# Altium footprint library WS-DITV.PcbLib: 44 footprints (part 1 of 3)
Each footprint in its own frame and in the unit in brackets; x right, y up, seen from the top. Pads: shape width x height; smd on the part's side, far side on the other; paste and mask are expansions set on the pad; w line width, h text height; cw(c..) or ccw(c..) is an arc to the next point about the centre after c.
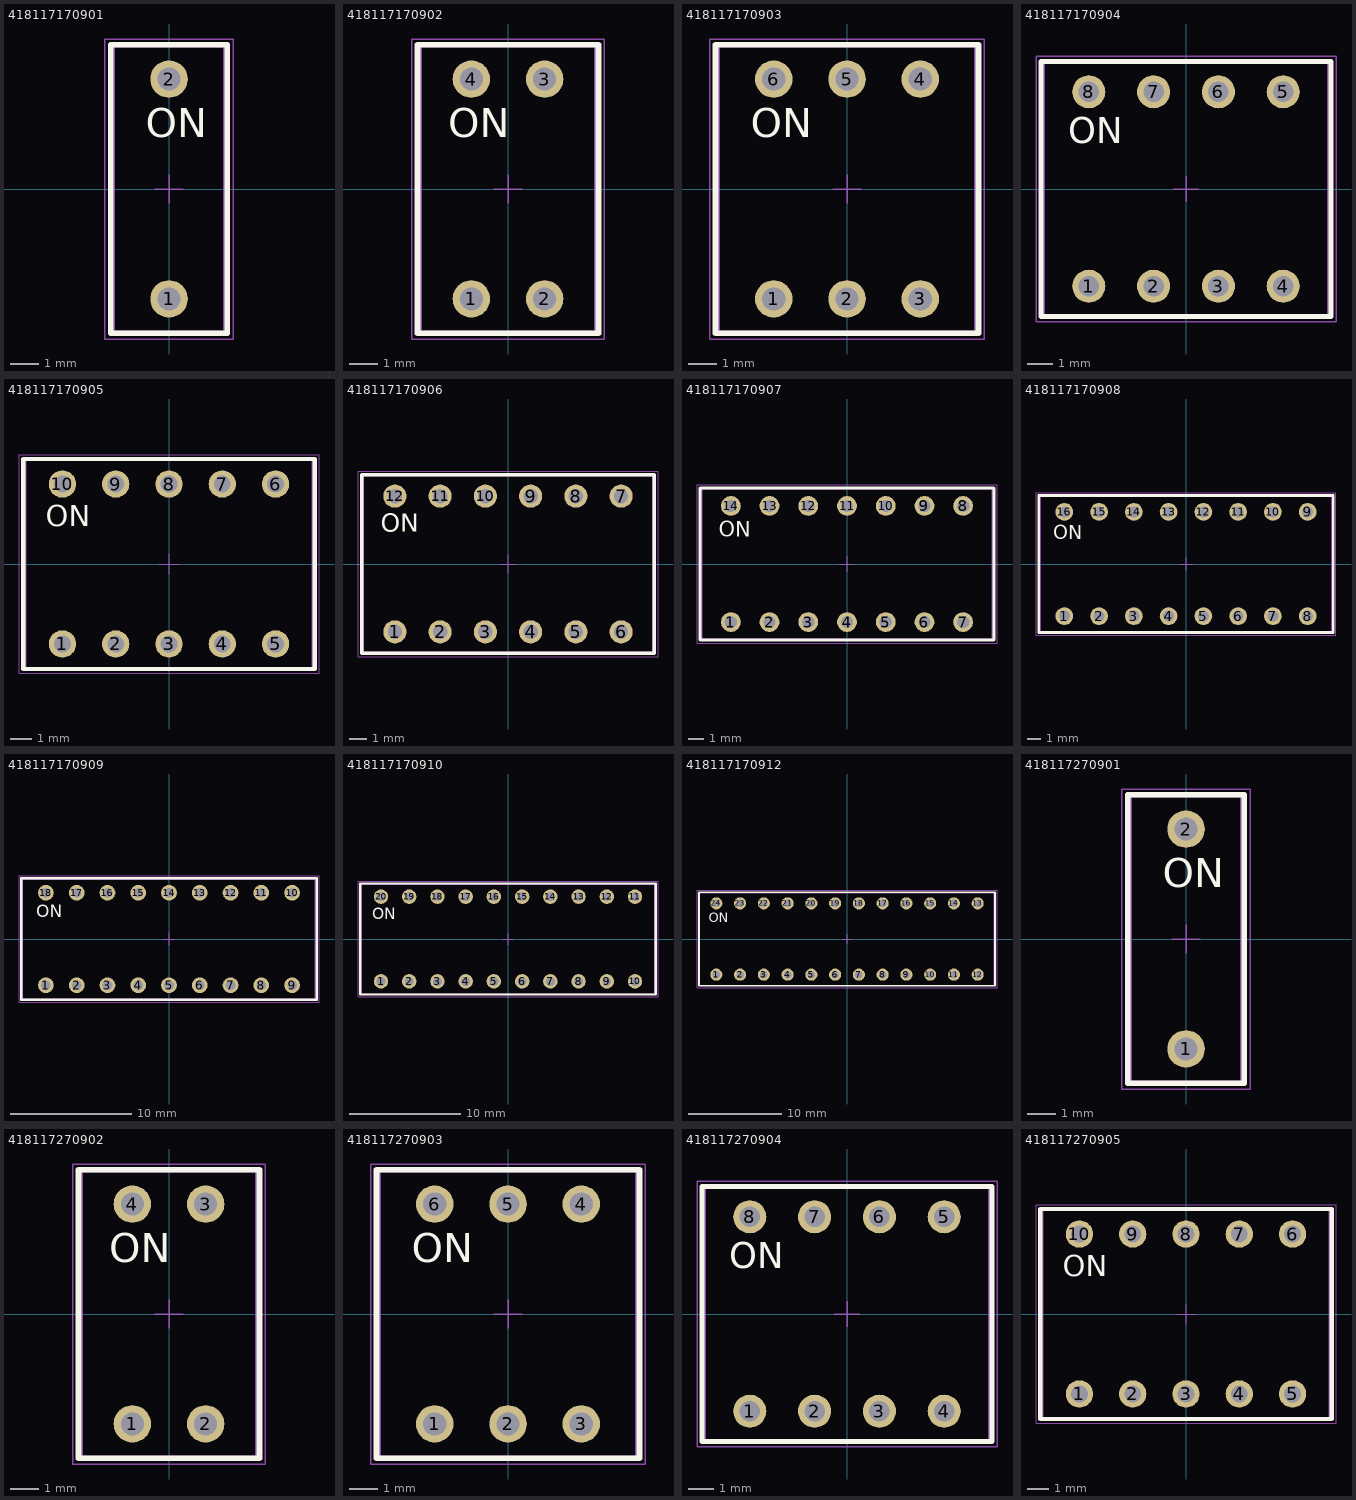
[diagram p0: the footprints below, top view; thin cyan lines are the x and y axes]

## 418117170901 [mm] "2.54 mm compact THT with flat actuator, 1p"
height 5.7
pads (2):
  round 1.3 hole 0.8: 1(0,-3.81) 2(0,3.81)
Top Overlay:
  lines w0.2: -2.02,-5 2.02,-5 2.02,5 -2.02,5 -2.02,-5
  text "ON" at -0.8,1.8 h1.02
Top Designator:
  text ".Designator" at -7.498,-0.5 h1.5
Top Component Outline:
  lines w0.1: -1.92,-4.95 -1.92,4.95 1.92,4.95 1.92,-4.95 -1.92,-4.95
  text "1" at -0.23,-2.8 h1.02
  text "ON" at -0.8,1.8 h1.02
Top Courtyard:
  lines w0.05: -0.5,0 0.5,0 ; 0,-0.5 0,0.5 ; -2.22,-5.2 -2.22,5.2 2.22,5.2 2.22,-5.2 -2.22,-5.2
3D body "418117170901.stp": height 5.75, standoff -3.65, extent -1.92,-4.95 1.92,4.95

## 418117170902 [mm] "2.54 mm compact THT with flat actuator, 2p"
height 5.7
pads (4):
  round 1.3 hole 0.8: 1(-1.27,-3.81) 2(1.27,-3.81) 3(1.27,3.81) 4(-1.27,3.81)
Top Overlay:
  lines w0.2: -3.14,-5 3.14,-5 3.14,5 -3.14,5 -3.14,-5
  text "ON" at -2.07,1.8 h1.02
Top Designator:
  text ".Designator" at -7.498,-0.5 h1.5
Top Component Outline:
  lines w0.1: -3.04,-4.95 -3.04,4.95 3.04,4.95 3.04,-4.95 -3.04,-4.95
  text "1" at -1.5,-2.8 h1.02
  text "ON" at -2.07,1.8 h1.02
  text "2" at 0.9,-2.8 h1.02
Top Courtyard:
  lines w0.05: -0.5,0 0.5,0 ; 0,-0.5 0,0.5 ; -3.34,-5.2 -3.34,5.2 3.34,5.2 3.34,-5.2 -3.34,-5.2
3D body "418117170902.stp": height 5.75, standoff -3.65, extent -3.04,-4.95 3.04,4.95

## 418117170903 [mm] "2.54 mm compact THT with flat actuator, 3p"
height 5.7
pads (6):
  round 1.3 hole 0.8: 1(-2.54,-3.81) 2(0,-3.81) 3(2.54,-3.81) 4(2.54,3.81) 5(0,3.81) 6(-2.54,3.81)
Top Overlay:
  lines w0.2: -4.56,-5 4.56,-5 4.56,5 -4.56,5 -4.56,-5
  text "ON" at -3.34,1.8 h1.02
Top Designator:
  text ".Designator" at -7.498,-0.5 h1.5
Top Component Outline:
  lines w0.1: -4.46,-4.95 -4.46,4.95 4.46,4.95 4.46,-4.95 -4.46,-4.95
  text "3" at 2.17,-2.8 h1.02
  text "1" at -2.77,-2.8 h1.02
  text "ON" at -3.34,1.8 h1.02
  text "2" at -0.37,-2.8 h1.02
Top Courtyard:
  lines w0.05: -0.5,0 0.5,0 ; 0,-0.5 0,0.5 ; -4.76,-5.2 -4.76,5.2 4.76,5.2 4.76,-5.2 -4.76,-5.2
3D body "418117170903.stp": height 5.75, standoff -3.65, extent -4.46,-4.95 4.46,4.95

## 418117170904 [mm] "2.54 mm compact THT with flat actuator, 4p"
height 5.7
pads (8):
  round 1.3 hole 0.8: 1(-3.81,-3.81) 2(-1.27,-3.81) 3(1.27,-3.81) 4(3.81,-3.81) 5(3.81,3.81) 6(1.27,3.81) 7(-1.27,3.81) 8(-3.81,3.81)
Top Overlay:
  lines w0.2: -5.68,-5 -5.68,5 5.68,5 5.68,-5 -5.68,-5
  text "ON" at -4.61,1.8 h1.02
Top Designator:
  text ".Designator" at -7.498,-0.5 h1.5
Top Component Outline:
  lines w0.1: -5.58,-4.95 5.58,-4.95 5.58,4.95 -5.58,4.95 -5.58,-4.95
  text "2" at -1.64,-2.8 h1.02
  text "ON" at -4.61,1.8 h1.02
  text "1" at -4.04,-2.8 h1.02
  text "3" at 0.9,-2.8 h1.02
  text "4" at 3.44,-2.8 h1.02
Top Courtyard:
  lines w0.05: -0.5,0 0.5,0 ; 0,-0.5 0,0.5 ; -5.88,-5.2 5.88,-5.2 5.88,5.2 -5.88,5.2 -5.88,-5.2
3D body "418117170904.stp": height 5.75, standoff -3.65, extent -5.58,-4.95 5.58,4.95

## 418117170905 [mm] "2.54 mm compact THT with flat actuator, 5p"
height 5.7
pads (10):
  round 1.3 hole 0.8: 1(-5.08,-3.81) 2(-2.54,-3.81) 3(0,-3.81) 4(2.54,-3.81) 5(5.08,-3.81) 6(5.08,3.81) 7(2.54,3.81) 8(0,3.81) 9(-2.54,3.81) 10(-5.08,3.81)
Top Overlay:
  lines w0.2: -6.95,-5 -6.95,5 6.95,5 6.95,-5 -6.95,-5
  text "ON" at -5.88,1.8 h1.02
Top Designator:
  text ".Designator" at -7.498,-0.5 h1.5
Top Component Outline:
  lines w0.1: -6.85,-4.95 6.85,-4.95 6.85,4.95 -6.85,4.95 -6.85,-4.95
  text "2" at -2.91,-2.8 h1.02
  text "ON" at -5.88,1.8 h1.02
  text "1" at -5.31,-2.8 h1.02
  text "3" at -0.37,-2.8 h1.02
  text "4" at 2.17,-2.8 h1.02
  text "5" at 4.71,-2.8 h1.02
Top Courtyard:
  lines w0.05: -0.5,0 0.5,0 ; 0,-0.5 0,0.5 ; -7.15,-5.2 7.15,-5.2 7.15,5.2 -7.15,5.2 -7.15,-5.2
3D body "418117170905.stp": height 5.75, standoff -3.65, extent -6.85,-4.95 6.85,4.95

## 418117170906 [mm] "2.54 mm compact THT with flat actuator, 6p"
height 5.7
pads (12):
  round 1.3 hole 0.8: 1(-6.35,-3.81) 2(-3.81,-3.81) 3(-1.27,-3.81) 4(1.27,-3.81) 5(3.81,-3.81) 6(6.35,-3.81) 7(6.35,3.81) 8(3.81,3.81) 9(1.27,3.81) 10(-1.27,3.81) 11(-3.81,3.81) 12(-6.35,3.81)
Top Overlay:
  lines w0.2: -8.22,-5 8.22,-5 8.22,5 -8.22,5 -8.22,-5
  text "ON" at -7.15,1.8 h1.02
Top Designator:
  text ".Designator" at -7.498,-0.5 h1.5
Top Component Outline:
  lines w0.1: -8.12,-4.95 -8.12,4.95 8.12,4.95 8.12,-4.95 -8.12,-4.95
  text "5" at 3.44,-2.8 h1.02
  text "4" at 0.9,-2.8 h1.02
  text "3" at -1.64,-2.8 h1.02
  text "1" at -6.58,-2.8 h1.02
  text "ON" at -7.15,1.8 h1.02
  text "2" at -4.18,-2.8 h1.02
  text "6" at 5.98,-2.8 h1.02
Top Courtyard:
  lines w0.05: -0.5,0 0.5,0 ; 0,-0.5 0,0.5 ; -8.42,-5.2 -8.42,5.2 8.42,5.2 8.42,-5.2 -8.42,-5.2
3D body "418117170906.stp": height 5.75, standoff -3.65, extent -8.12,-4.95 8.12,4.95

## 418117170907 [mm] "2.54 mm compact THT with flat actuator, 7p"
height 5.7
pads (14):
  round 1.3 hole 0.8: 1(-7.62,-3.81) 2(-5.08,-3.81) 3(-2.54,-3.81) 4(0,-3.81) 5(2.54,-3.81) 6(5.08,-3.81) 7(7.62,-3.81) 8(7.62,3.81) 9(5.08,3.81) 10(2.54,3.81) 11(0,3.81) 12(-2.54,3.81) 13(-5.08,3.81) 14(-7.62,3.81)
Top Overlay:
  lines w0.2: -9.64,-5 9.64,-5 9.64,5 -9.64,5 -9.64,-5
  text "ON" at -8.42,1.8 h1.02
Top Designator:
  text ".Designator" at -7.498,-0.5 h1.5
Top Component Outline:
  lines w0.1: -9.54,-4.95 -9.54,4.95 9.54,4.95 9.54,-4.95 -9.54,-4.95
  text "7" at 7.25,-2.8 h1.02
  text "5" at 2.17,-2.8 h1.02
  text "4" at -0.37,-2.8 h1.02
  text "3" at -2.91,-2.8 h1.02
  text "1" at -7.85,-2.8 h1.02
  text "ON" at -8.42,1.8 h1.02
  text "2" at -5.45,-2.8 h1.02
  text "6" at 4.71,-2.8 h1.02
Top Courtyard:
  lines w0.05: -0.5,0 0.5,0 ; 0,-0.5 0,0.5 ; -9.84,-5.2 -9.84,5.2 9.84,5.2 9.84,-5.2 -9.84,-5.2
3D body "418117170907.stp": height 5.75, standoff -3.65, extent -9.54,-4.95 9.54,4.95

## 418117170908 [mm] "2.54 mm compact THT with flat actuator, 8p"
height 5.7
pads (16):
  round 1.3 hole 0.8: 1(-8.89,-3.81) 2(-6.35,-3.81) 3(-3.81,-3.81) 4(-1.27,-3.81) 5(1.27,-3.81) 6(3.81,-3.81) 7(6.35,-3.81) 8(8.89,-3.81) 9(8.89,3.81) 10(6.35,3.81) 11(3.81,3.81) 12(1.27,3.81) 13(-1.27,3.81) 14(-3.81,3.81) 15(-6.35,3.81) 16(-8.89,3.81)
Top Overlay:
  lines w0.2: -10.76,-5 10.76,-5 10.76,5 -10.76,5 -10.76,-5
  text "ON" at -9.69,1.8 h1.02
Top Designator:
  text ".Designator" at -7.498,-0.5 h1.5
Top Component Outline:
  lines w0.1: -10.66,-4.95 -10.66,4.95 10.66,4.95 10.66,-4.95 -10.66,-4.95
  text "8" at 8.52,-2.8 h1.02
  text "7" at 5.98,-2.8 h1.02
  text "5" at 0.9,-2.8 h1.02
  text "4" at -1.64,-2.8 h1.02
  text "3" at -4.18,-2.8 h1.02
  text "1" at -9.12,-2.8 h1.02
  text "ON" at -9.69,1.8 h1.02
  text "2" at -6.72,-2.8 h1.02
  text "6" at 3.44,-2.8 h1.02
Top Courtyard:
  lines w0.05: -0.5,0 0.5,0 ; 0,-0.5 0,0.5 ; -10.96,-5.2 -10.96,5.2 10.96,5.2 10.96,-5.2 -10.96,-5.2
3D body "418117170908.stp": height 5.75, standoff -3.65, extent -10.66,-4.95 10.66,4.95

## 418117170909 [mm] "2.54 mm compact THT with flat actuator, 9p"
height 5.7
pads (18):
  round 1.3 hole 0.8: 1(-10.16,-3.81) 2(-7.62,-3.81) 3(-5.08,-3.81) 4(-2.54,-3.81) 5(0,-3.81) 6(2.54,-3.81) 7(5.08,-3.81) 8(7.62,-3.81) 9(10.16,-3.81) 10(10.16,3.81) 11(7.62,3.81) 12(5.08,3.81) 13(2.54,3.81) 14(0,3.81) 15(-2.54,3.81) 16(-5.08,3.81) 17(-7.62,3.81) 18(-10.16,3.81)
Top Overlay:
  lines w0.2: -12.18,-5 12.18,-5 12.18,5 -12.18,5 -12.18,-5
  text "ON" at -10.96,1.8 h1.02
Top Designator:
  text ".Designator" at -7.498,-0.5 h1.5
Top Component Outline:
  lines w0.1: -12.08,-4.95 -12.08,4.95 12.08,4.95 12.08,-4.95 -12.08,-4.95
  text "9" at 9.79,-2.8 h1.02
  text "8" at 7.25,-2.8 h1.02
  text "7" at 4.71,-2.8 h1.02
  text "5" at -0.37,-2.8 h1.02
  text "4" at -2.91,-2.8 h1.02
  text "3" at -5.45,-2.8 h1.02
  text "1" at -10.39,-2.8 h1.02
  text "ON" at -10.96,1.8 h1.02
  text "2" at -7.99,-2.8 h1.02
  text "6" at 2.17,-2.8 h1.02
Top Courtyard:
  lines w0.05: -0.5,0 0.5,0 ; 0,-0.5 0,0.5 ; -12.38,-5.2 -12.38,5.2 12.38,5.2 12.38,-5.2 -12.38,-5.2
3D body "418117170909.stp": height 5.75, standoff -3.65, extent -12.08,-4.95 12.08,4.95

## 418117170910 [mm] "2.54 mm compact THT with flat actuator, 10p"
height 5.7
pads (20):
  round 1.3 hole 0.8: 1(-11.43,-3.81) 2(-8.89,-3.81) 3(-6.35,-3.81) 4(-3.81,-3.81) 5(-1.27,-3.81) 6(1.27,-3.81) 7(3.81,-3.81) 8(6.35,-3.81) 9(8.89,-3.81) 10(11.43,-3.81) 11(11.43,3.81) 12(8.89,3.81) 13(6.35,3.81) 14(3.81,3.81) 15(1.27,3.81) 16(-1.27,3.81) 17(-3.81,3.81) 18(-6.35,3.81) 19(-8.89,3.81) 20(-11.43,3.81)
Top Overlay:
  lines w0.2: -13.3,-5 13.3,-5 13.3,5 -13.3,5 -13.3,-5
  text "ON" at -12.23,1.8 h1.02
Top Designator:
  text ".Designator" at -7.498,-0.5 h1.5
Top Component Outline:
  lines w0.1: -13.2,-4.95 -13.2,4.95 13.2,4.95 13.2,-4.95 -13.2,-4.95
  text "ON" at -12.23,1.8 h1.02
  text "6" at 0.9,-2.8 h1.02
  text "2" at -9.26,-2.8 h1.02
  text "1" at -11.66,-2.8 h1.02
  text "3" at -6.72,-2.8 h1.02
  text "4" at -4.18,-2.8 h1.02
  text "5" at -1.64,-2.8 h1.02
  text "7" at 3.44,-2.8 h1.02
  text "8" at 5.98,-2.8 h1.02
  text "9" at 8.52,-2.8 h1.02
  text "10" at 10.65,-2.8 h1.02
Top Courtyard:
  lines w0.05: -0.5,0 0.5,0 ; 0,-0.5 0,0.5 ; -13.5,-5.2 -13.5,5.2 13.5,5.2 13.5,-5.2 -13.5,-5.2
3D body "418117170910.stp": height 5.75, standoff -3.65, extent -13.2,-4.95 13.2,4.95

## 418117170912 [mm] "2.54 mm compact THT with flat actuator, 12p"
height 5.7
pads (24):
  round 1.3 hole 0.8: 1(-13.97,-3.81) 2(-11.43,-3.81) 3(-8.89,-3.81) 4(-6.35,-3.81) 5(-3.81,-3.81) 6(-1.27,-3.81) 7(1.27,-3.81) 8(3.81,-3.81) 9(6.35,-3.81) 10(8.89,-3.81) 11(11.43,-3.81) 12(13.97,-3.81) 13(13.97,3.81) 14(11.43,3.81) 15(8.89,3.81) 16(6.35,3.81) 17(3.81,3.81) 18(1.27,3.81) 19(-1.27,3.81) 20(-3.81,3.81) 21(-6.35,3.81) 22(-8.89,3.81) 23(-11.43,3.81) 24(-13.97,3.81)
Top Overlay:
  lines w0.2: -15.84,-5 15.84,-5 15.84,5 -15.84,5 -15.84,-5
  text "ON" at -14.77,1.8 h1.02
Top Designator:
  text ".Designator" at -7.498,-0.5 h1.5
Top Component Outline:
  lines w0.1: -15.74,-4.95 15.74,-4.95 15.74,4.95 -15.74,4.95 -15.74,-4.95
  text "10" at 8.11,-2.8 h1.02
  text "9" at 5.98,-2.8 h1.02
  text "8" at 3.44,-2.8 h1.02
  text "7" at 0.9,-2.8 h1.02
  text "5" at -4.18,-2.8 h1.02
  text "4" at -6.72,-2.8 h1.02
  text "3" at -9.26,-2.8 h1.02
  text "1" at -14.2,-2.8 h1.02
  text "ON" at -14.77,1.8 h1.02
  text "2" at -11.8,-2.8 h1.02
  text "6" at -1.64,-2.8 h1.02
  text "11" at 10.85,-2.8 h1.02
  text "12" at 13.15,-2.8 h1.02
Top Courtyard:
  lines w0.05: -0.5,0 0.5,0 ; 0,-0.5 0,0.5 ; -16.04,-5.2 -16.04,5.2 16.04,5.2 16.04,-5.2 -16.04,-5.2
3D body "418117170912.stp": height 5.75, standoff -3.65, extent -15.74,-4.95 15.74,4.95

## 418117270901 [mm] "2.54 mm compact THT with raised actuator, 1p"
height 6.3
pads (2):
  round 1.3 hole 0.8: 1(0,-3.81) 2(0,3.81)
Top Overlay:
  lines w0.2: -2.02,-5 -2.02,5 2.02,5 2.02,-5 -2.02,-5
  text "ON" at -0.8,1.8 h1.02
Top Designator:
  text ".Designator" at -7.498,-0.5 h1.5
Top Component Outline:
  lines w0.1: -1.92,-4.95 1.92,-4.95 1.92,4.95 -1.92,4.95 -1.92,-4.95
  text "ON" at -0.8,1.8 h1.02
  text "1" at -0.1,-2.8 h1.02
Top Courtyard:
  lines w0.05: -0.5,0 0.5,0 ; 0,-0.5 0,0.5 ; -2.22,-5.2 2.22,-5.2 2.22,5.2 -2.22,5.2 -2.22,-5.2
3D body "418117270901.stp": height 6.9, standoff -3.65, extent -1.92,-4.95 1.92,4.95

## 418117270902 [mm] "2.54 mm compact THT with raised actuator, 2p"
height 6.3
pads (4):
  round 1.3 hole 0.8: 1(-1.27,-3.81) 2(1.27,-3.81) 3(1.27,3.81) 4(-1.27,3.81)
Top Overlay:
  lines w0.2: -3.14,-5 -3.14,5 3.14,5 3.14,-5 -3.14,-5
  text "ON" at -2.07,1.8 h1.02
Top Designator:
  text ".Designator" at -7.498,-0.5 h1.5
Top Component Outline:
  lines w0.1: -3.04,-4.95 3.04,-4.95 3.04,4.95 -3.04,4.95 -3.04,-4.95
  text "2" at 0.9,-2.8 h1.02
  text "ON" at -2.07,1.8 h1.02
  text "1" at -1.5,-2.8 h1.02
Top Courtyard:
  lines w0.05: -0.5,0 0.5,0 ; 0,-0.5 0,0.5 ; -3.34,-5.2 3.34,-5.2 3.34,5.2 -3.34,5.2 -3.34,-5.2
3D body "418117270902.stp": height 6.9, standoff -3.65, extent -3.04,-4.95 3.04,4.95

## 418117270903 [mm] "2.54 mm compact THT with raised actuator, 3p"
height 6.3
pads (6):
  round 1.3 hole 0.8: 1(-2.54,-3.81) 2(0,-3.81) 3(2.54,-3.81) 4(2.54,3.81) 5(0,3.81) 6(-2.54,3.81)
Top Overlay:
  lines w0.2: -4.56,-5 -4.56,5 4.56,5 4.56,-5 -4.56,-5
  text "ON" at -3.34,1.8 h1.02
Top Designator:
  text ".Designator" at -7.498,-0.5 h1.5
Top Component Outline:
  lines w0.1: -4.46,-4.95 4.46,-4.95 4.46,4.95 -4.46,4.95 -4.46,-4.95
  text "2" at -0.37,-2.8 h1.02
  text "ON" at -3.34,1.8 h1.02
  text "1" at -2.77,-2.8 h1.02
  text "3" at 2.17,-2.8 h1.02
Top Courtyard:
  lines w0.05: -0.5,0 0.5,0 ; 0,-0.5 0,0.5 ; -4.76,-5.2 4.76,-5.2 4.76,5.2 -4.76,5.2 -4.76,-5.2
3D body "418117270903.stp": height 6.9, standoff -3.65, extent -4.46,-4.95 4.46,4.95

## 418117270904 [mm] "2.54 mm compact THT with raised actuator, 4p"
height 6.3
pads (8):
  round 1.3 hole 0.8: 1(-3.81,-3.81) 2(-1.27,-3.81) 3(1.27,-3.81) 4(3.81,-3.81) 5(3.81,3.81) 6(1.27,3.81) 7(-1.27,3.81) 8(-3.81,3.81)
Top Overlay:
  lines w0.2: -5.68,-5 5.68,-5 5.68,5 -5.68,5 -5.68,-5
  text "ON" at -4.61,1.8 h1.02
Top Designator:
  text ".Designator" at -7.498,-0.5 h1.5
Top Component Outline:
  lines w0.1: -5.58,-4.95 -5.58,4.95 5.58,4.95 5.58,-4.95 -5.58,-4.95
  text "4" at 3.44,-2.8 h1.02
  text "3" at 0.9,-2.8 h1.02
  text "1" at -4.04,-2.8 h1.02
  text "ON" at -4.61,1.8 h1.02
  text "2" at -1.64,-2.8 h1.02
Top Courtyard:
  lines w0.05: -0.5,0 0.5,0 ; 0,-0.5 0,0.5 ; -5.88,-5.2 -5.88,5.2 5.88,5.2 5.88,-5.2 -5.88,-5.2
3D body "418117270904.stp": height 6.9, standoff -3.65, extent -5.58,-4.95 5.58,4.95

## 418117270905 [mm] "2.54 mm compact THT with raised actuator, 5p"
height 6.3
pads (10):
  round 1.3 hole 0.8: 1(-5.08,-3.81) 2(-2.54,-3.81) 3(0,-3.81) 4(2.54,-3.81) 5(5.08,-3.81) 6(5.08,3.81) 7(2.54,3.81) 8(0,3.81) 9(-2.54,3.81) 10(-5.08,3.81)
Top Overlay:
  lines w0.2: -6.95,-5 -6.95,5 6.95,5 6.95,-5 -6.95,-5
  text "ON" at -5.88,1.8 h1.02
Top Designator:
  text ".Designator" at -7.498,-0.5 h1.5
Top Component Outline:
  lines w0.1: -6.85,-4.95 6.85,-4.95 6.85,4.95 -6.85,4.95 -6.85,-4.95
  text "2" at -2.91,-2.8 h1.02
  text "ON" at -5.88,1.8 h1.02
  text "1" at -5.31,-2.8 h1.02
  text "3" at -0.37,-2.8 h1.02
  text "4" at 2.17,-2.8 h1.02
  text "5" at 4.71,-2.8 h1.02
Top Courtyard:
  lines w0.05: -0.5,0 0.5,0 ; 0,-0.5 0,0.5 ; -7.15,-5.2 7.15,-5.2 7.15,5.2 -7.15,5.2 -7.15,-5.2
3D body "418117270905.stp": height 6.9, standoff -3.65, extent -6.85,-4.95 6.85,4.95